# Altium schematic symbol library Schlib1.SchLib: 1 symbol
Pins are listed as number, name and electrical type; pins without a type are passive.

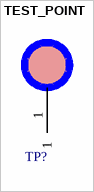
[diagram p0: symbol TEST_POINT]

## TEST_POINT
designator TP?, comment TP  (value not drawn)  (no BOM)
footprint TEST_POINT
pins: 1